# EAGLE library part DS2890P (library 1wire)
1-Wire Digital Potentiometer This chip provides a 0..100k potentiometer which can be controlled by software in 256 steps. The RH, RL and WI pins may be connected to levels from 0..11V. Notes: The DS2890 is the same chip in a TO-92 package with only 3 pins, thus allowing to use it as a pull-to-ground resistor only. Author: Jan Kandziora <jjj@gmx.de>
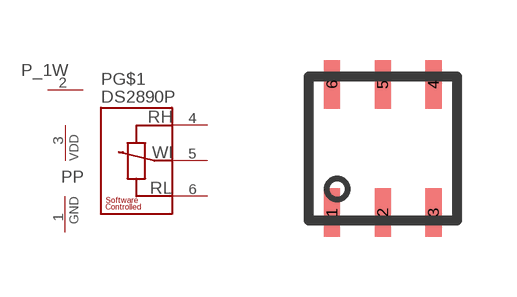
[diagram p3: symbol with the pads of TSOC6; footprint TSOC6]

Designator prefix P; gates G$1=DS2890P _1W=1W P=VDD-GND

## DS2890P  [TSOC6]
1  P:GND  pwr
2  _1W:1W  pwr
3  P:VDD  pwr
4  G$1:RH  pas
5  G$1:WI  pas
6  G$1:RL  pas

## Footprint TSOC6 (pad centres in mm)
TSOC 6
smd 0.406 x 1.219: 1 -1.27,-1.6; 2 0,-1.6; 3 1.27,-1.6; 4 1.27,1.6; 5 0,1.6; 6 -1.27,1.6